# EAGLE library part IC_MSGEQ7 (library ATtami)
seven band Graphic Equalizer IC
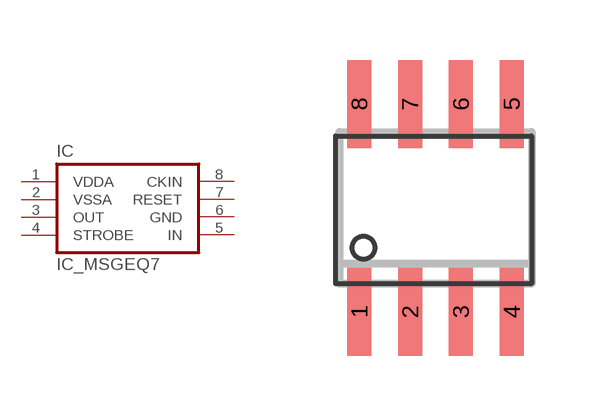
[diagram p5: symbol with the pads of SOIC-8; footprint SOIC-8]

Designator prefix IC

## IC_MSGEQ7-SOIC8  [SOIC-8]
1  VDDA  sup
2  VSSA  in
3  OUT  out
4  STROBE  in
5  IN  sup
6  GND  in
7  RESET  in
8  CKIN  sup

## Footprint SOIC-8 (pad centres in mm)
smd 0.6 x 2.2: 1 -1.905,-2.6; 2 -0.635,-2.6; 3 0.635,-2.6; 4 1.905,-2.6; 5 1.905,2.6; 6 0.635,2.6; 7 -0.635,2.6; 8 -1.905,2.6